# EAGLE library part 691317410008 (library Wuerth_Elektronik_eiCan_Terminal_Blocks_v2.0)
WR - TBL Serie 3174 - 7.62mm Reversed Gender Horizontal PCB Header with Flanges, 8 pins
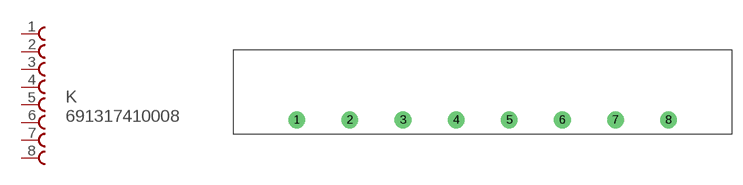
[diagram p201: symbol with the pads of 691317410008; footprint 691317410008]

Designator prefix K

## 691317410008  [691317410008]
1  1  pas
2  2  pas
3  3  pas
4  4  pas
5  5  pas
6  6  pas
7  7  pas
8  8  pas

## Footprint 691317410008 (pad centres in mm)
WR - TBL Serie 3174 - 7.62mm Reversed Gender Horizontal PCB Header with Flanges, 8 pins
drill 1.6 round: 1 -7.62,0; 2 0,0; 3 7.62,0; 4 15.24,0; 5 22.86,0; 6 30.48,0; 7 38.1,0; 8 45.72,0